# Altium footprint library Flex_R_0603(1608).PcbLib: 1 footprints
Each footprint in its own frame and in the unit in brackets; x right, y up, seen from the top. Pads: shape width x height; smd on the part's side, far side on the other; paste and mask are expansions set on the pad; w line width, h text height; cw(c..) or ccw(c..) is an arc to the next point about the centre after c.
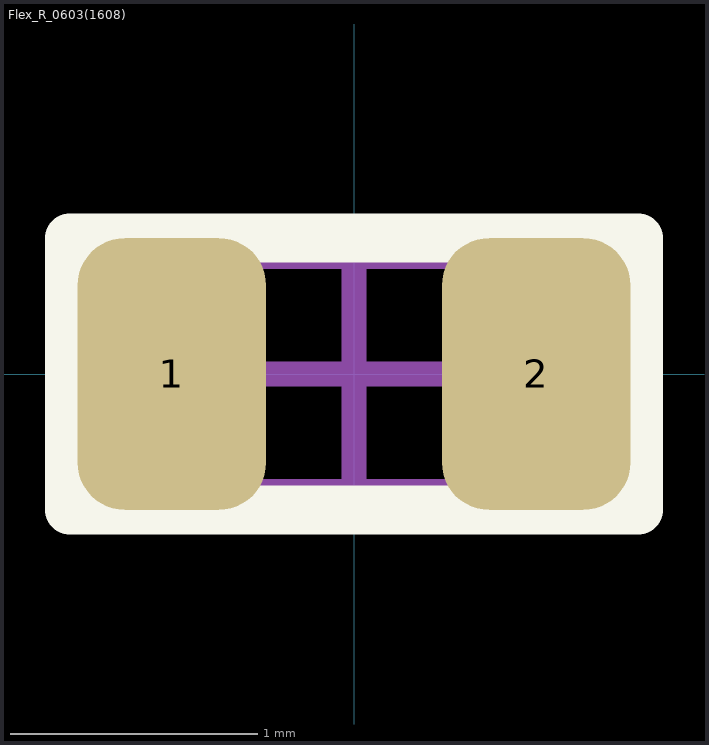
[diagram p0: the footprint, top view; thin cyan lines are the x and y axes]

## Flex_R_0603(1608) [mil] "Chip Resistor, Body 1.6x0.8mm, Flex"
height 23.62
pads (2):
  rrect50% 30x43.31 smd paste-7.87 mask-4.02: 1(-29,0) 2(29,0)
Top Overlay:
  lines w7.87: -45.28,-21.65 -45.28,21.65 45.28,21.65 45.28,-21.65 -45.28,-21.65
Mechanical 13:
  lines w3.94: -33.46,-18.7 33.46,-18.7 33.46,18.7 -33.46,18.7 -33.46,-18.7
Mechanical 15:
  lines w3.94: -18.7,0 18.7,0 ; 0,-18.7 0,18.7 ; -45.28,-21.65 45.28,-21.65 45.28,21.65 -45.28,21.65 -45.28,-21.65
3D body: height 23.62, standoff 0, extent -33.46,-18.7 33.46,18.7